# EAGLE library part MICROMATCH_8POS (library Traficon)
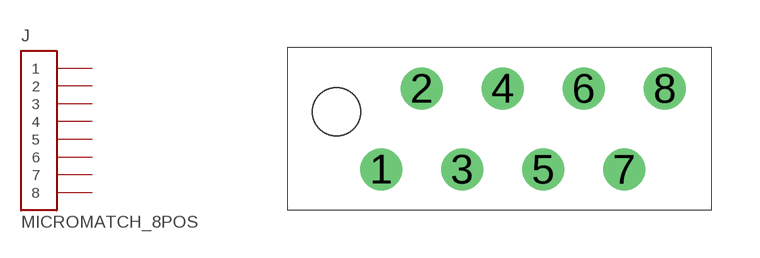
[diagram p215: symbol with the pads of MICROMATCH_8POS; footprint MICROMATCH_8POS]

Designator prefix J

## MICROMATCH_8POS  [MICROMATCH_8POS]
1  1
2  2
3  3
4  4
5  5
6  6
7  7
8  8

## Footprint MICROMATCH_8POS (pad centres in mm)
drill 0.813 round: 1 0,0; 2 1.27,2.54; 3 2.54,0; 4 3.81,2.54; 5 5.08,0; 6 6.35,2.54; 7 7.62,0; 8 8.89,2.54
hole 1.5 at -1.4,1.8